# EAGLE library part PHOTOCOUPLER (library 1)
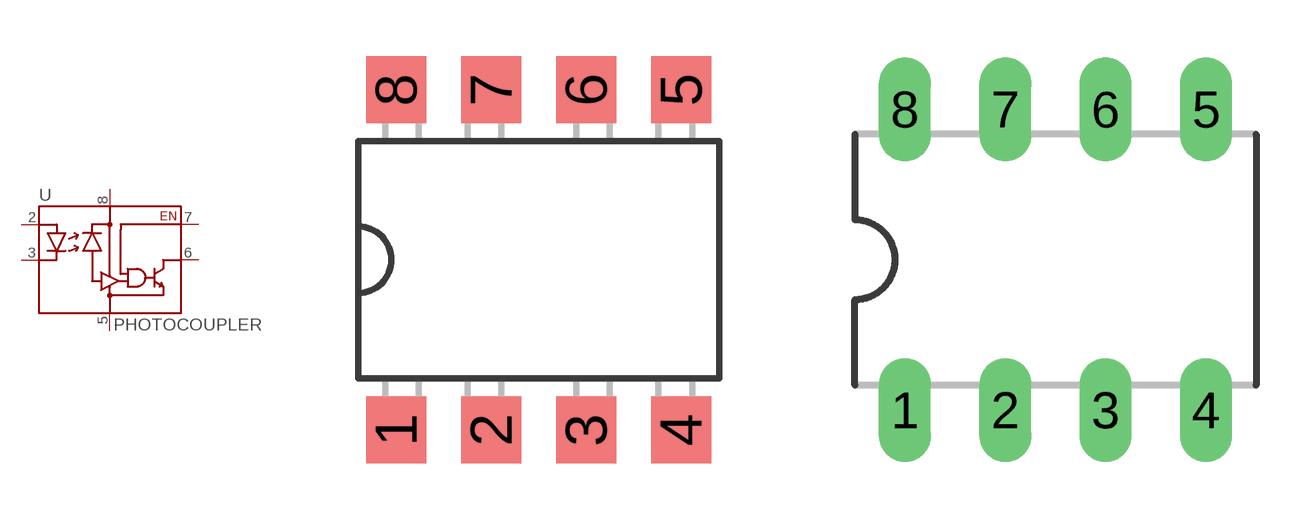
[diagram p61: symbol with the pads of SMD-8; footprints SMD-8, DIL08]

Designator prefix U

## PHOTOCOUPLERSMD8  [SMD-8]
2  A
3  C
5  GND
6  VO
7  VE
8  VCC

## PHOTOCOUPLER  [DIL08]
Pads as for SMD-8

## PHOTOCOUPLERSMD8_2  [SMD-8_2]
Pads as for SMD-8

## Footprint SMD-8 (pad centres in mm)
SMD-8
smd 1.6 x 1.8: 1 -3.81,-4.55; 2 -1.27,-4.55; 3 1.27,-4.55; 4 3.81,-4.55; 5 3.81,4.55; 6 1.27,4.55; 7 -1.27,4.55; 8 -3.81,4.55

## Footprint DIL08 (pad centres in mm)
drill 0.813 long: 1 -3.81,-3.81; 2 -1.27,-3.81; 3 1.27,-3.81; 4 3.81,-3.81; 5 3.81,3.81; 6 1.27,3.81; 7 -1.27,3.81; 8 -3.81,3.81

## Footprint SMD-8_2 (pad centres in mm)
smd 1.7 x 1.5: 1 -3.81,-4.6; 2 -1.27,-4.6; 3 1.27,-4.6; 4 3.81,-4.6; 5 3.81,4.6; 6 1.27,4.6; 7 -1.27,4.6; 8 -3.81,4.6